# Altium footprint library Current_and_Power_ Monitors.PcbLib: 2 footprints
Each footprint in its own frame and in the unit in brackets; x right, y up, seen from the top. Pads: shape width x height; smd on the part's side, far side on the other; paste and mask are expansions set on the pad; w line width, h text height; cw(c..) or ccw(c..) is an arc to the next point about the centre after c.
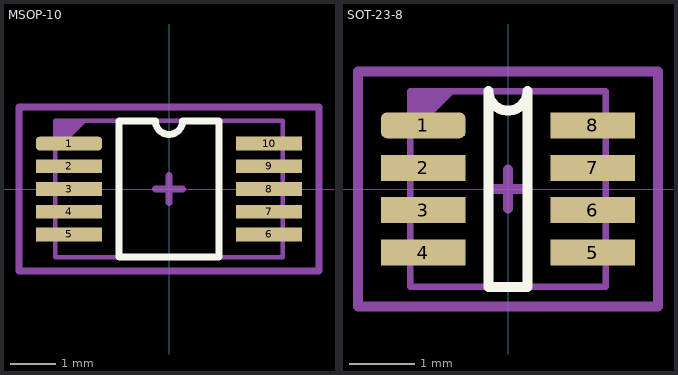
[diagram p0: the footprints below, top view; thin cyan lines are the x and y axes]

## MSOP-10 [mm]
pads (10):
  rrect50% 1.45x0.3 smd: 1(-2.2,1)
  rect 1.45x0.3 smd: 2(-2.2,0.5) 3(-2.2,0) 4(-2.2,-0.5) 5(-2.2,-1) 6(2.2,-1) 7(2.2,-0.5) 8(2.2,0) 9(2.2,0.5) 10(2.2,1)
Top Overlay:
  lines w0.153: -1.1,-1.5 -1.1,1.5 -0.3,1.5 ccw(c0,1.5) 0.3,1.5 1.1,1.5 1.1,-1.5 -1.1,-1.5
Top Assembly:
  region: -2.5,1.5 -1.8,1.5 -2.5,0.8
  lines w0.1: -2.5,-1.5 -2.5,1.5 2.5,1.5 2.5,-1.5 -2.5,-1.5
  text "'.Designator'" at -4.532,-0.333 h0.8
Top Courtyard:
  lines w0.153: -0.3,0 0.3,0 ; 0,-0.3 0,0.3 ; -3.3,-1.8 -3.3,1.8 3.3,1.8 3.3,-1.8 -3.3,-1.8
3D body "INA226AIDGSR.STEP": height 1.1, standoff 0, extent -2.45,-1.5 2.45,1.5

## SOT-23-8 [mm]
pads (8):
  rrect50% 1.3x0.4 smd: 1(-1.3,0.975)
  rect 1.3x0.4 smd: 2(-1.3,0.325) 3(-1.3,-0.325) 4(-1.3,-0.975) 5(1.3,-0.975) 6(1.3,-0.325) 7(1.3,0.325) 8(1.3,0.975)
Top Overlay:
  lines w0.153: -0.3,-1.5 0.3,-1.5 0.3,1.5 cw(c0,1.5) -0.3,1.5 -0.3,-1.5
Top Assembly:
  region: -1.5,1.5 -0.8,1.5 -1.5,0.8
  lines w0.1: -1.5,-1.5 1.5,-1.5 1.5,1.5 -1.5,1.5 -1.5,-1.5
  text "'.Designator'" at -4.532,-0.333 h0.8
Top Courtyard:
  lines w0.153: -0.3,0 0.3,0 ; 0,-0.3 0,0.3 ; -2.3,-1.8 2.3,-1.8 2.3,1.8 -2.3,1.8 -2.3,-1.8
3D body "sot23-8_p0-65_l3-0_w1-7.stp": height 1.44, standoff -0.01, extent -1.5,-1.5 1.5,1.5